# Altium footprint library go_kart.PcbLib: 10 footprints
Each footprint in its own frame and in the unit in brackets; x right, y up, seen from the top. Pads: shape width x height; smd on the part's side, far side on the other; paste and mask are expansions set on the pad; w line width, h text height; cw(c..) or ccw(c..) is an arc to the next point about the centre after c.
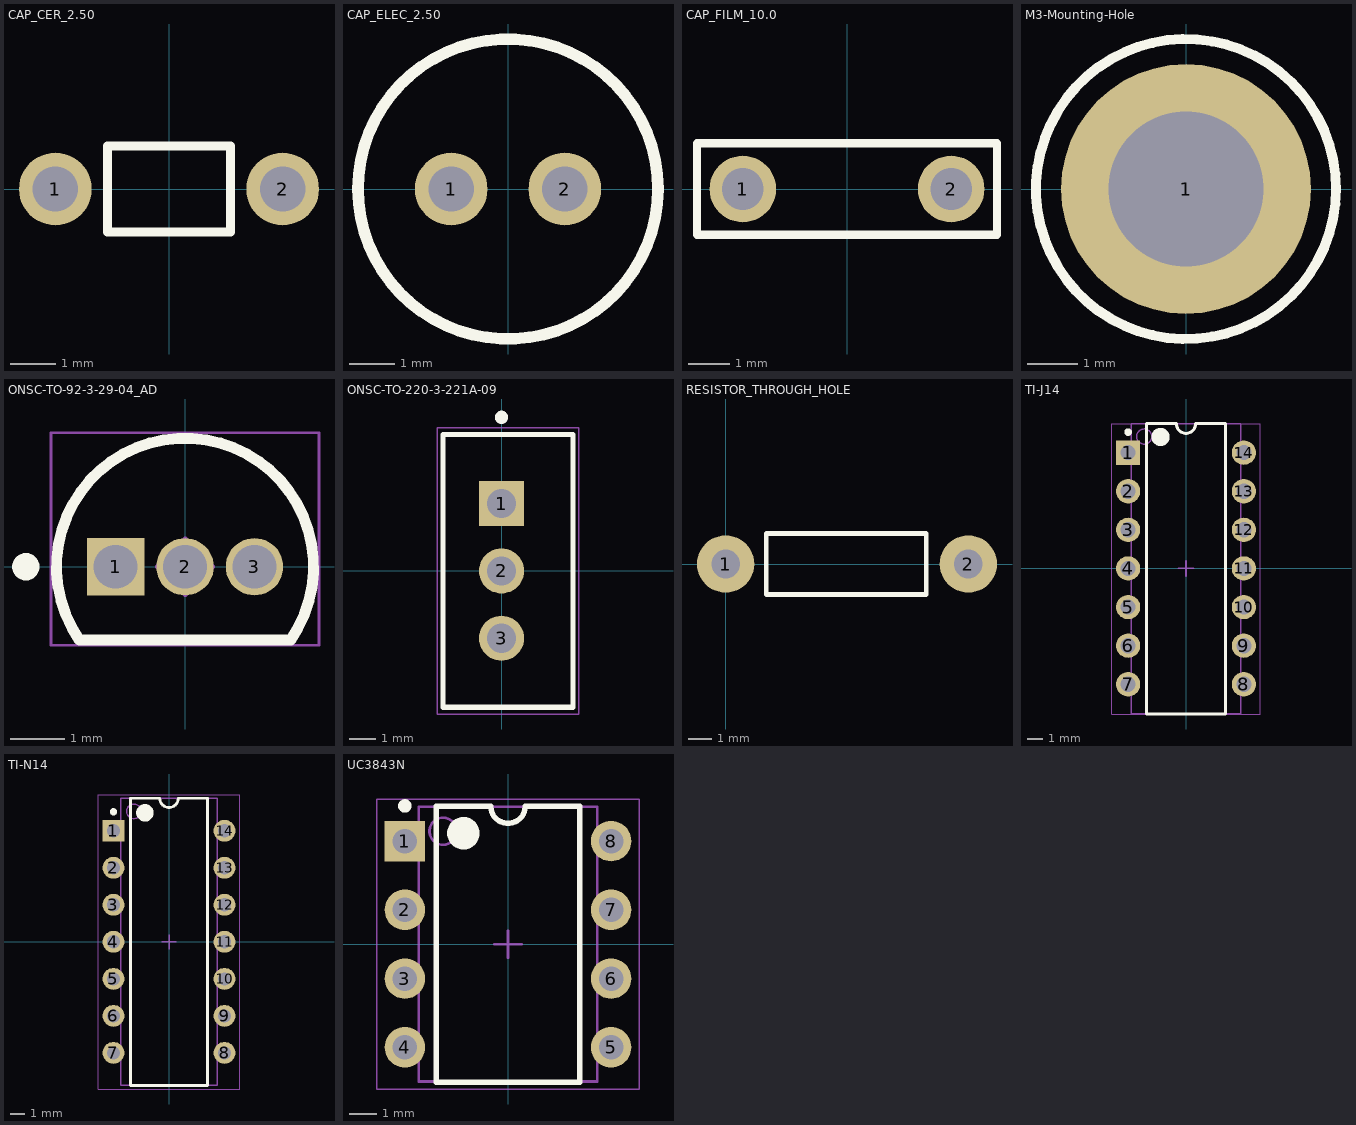
[diagram p0: the footprints below, top view; thin cyan lines are the x and y axes]

## CAP_CER_2.50 [mm]
pads (2):
  round 1.6 hole 1: 1(-2.5,0) 2(2.5,0)
Top Overlay:
  lines w0.2: -1.35,-0.95 1.35,-0.95 1.35,0.95 -1.35,0.95 -1.35,-0.95
3D body "C_Disc_D4.3mm_W1.9mm_P5.00mm.step": height 4.4, standoff -2, extent -2.75,-0.95 2.75,0.95

## CAP_ELEC_2.50 [mm]
pads (2):
  round 1.6 hole 1: 1(-1.25,0) 2(1.25,0)
Top Overlay:
  circle w0.254: c0,0 r3.3
3D body "C_Radial_D6.3mm_H7.0mm_P2.50mm.step": height 7.1, standoff -1.9, extent -3.15,-3.15 3.15,3.147

## CAP_FILM_10.0 [mm]
pads (2):
  round 1.6 hole 1: 1(-2.5,0) 2(2.5,0)
Top Overlay:
  lines w0.2: -3.6,-1.1 -3.6,1.1 3.6,1.1 3.6,-1.1 -3.6,-1.1
3D body "C_Rect_L7.0mm_W2.0mm_P5.00mm.step": height 10.01, standoff -1.89, extent -3.5,-1 3.5,1

## M3-Mounting-Hole [mm]
pads (1):
  round 5 hole 3.1: 1(0,0)
Top Overlay:
  circle w0.2: c0,0 r3
Bottom Overlay:
  circle w0.2: c0,0 r3

## ONSC-TO-92-3-29-04_AD [mm] "TO, 3-Leads, Body Dia 4.7mm, Pitch 1.27mm"
height 7.87
pads (3):
  rect 1.05x1.05 hole 0.8: 1(-1.27,0)
  round 1.05 hole 0.8: 2(0,0) 3(1.27,0)
Top Overlay:
  circle w0.25: c-2.911,0 r0.125
  lines w0.2: -1.933,-1.337 cw(c0,0) 1.933,-1.337 -1.933,-1.337
Mechanical 13:
  lines w0.1: -1.933,-1.337 cw(c0,0) 1.933,-1.337 ; -1.933,-1.335 1.933,-1.335
Mechanical 15:
  lines w0.05: -2.45,-1.435 -2.45,2.45 2.45,2.45 2.45,-1.435 -2.45,-1.435
  lines w0.1: -0.5,0 0.5,0 ; 0,-0.5 0,0.5
3D body: height 7.87, standoff 2.54, extent -2.357,-1.335 2.349,2.359

## ONSC-TO-220-3-221A-09 [mm] "FM, 3-Leads, Body 10.3x4.85mm, Pitch 2.54mm"
height 19.85
pads (3):
  rect 1.7x1.7 hole 1.1: 1(0,2.54)
  round 1.7 hole 1.1: 2(0,0) 3(0,-2.54)
Top Overlay:
  circle w0.25: c0,5.8 r0.125
  lines w0.2: -2.205,-5.15 -2.205,5.15 2.695,5.15 2.695,-5.15 -2.205,-5.15
Mechanical 13:
  lines w0.1: -2.18,-5.15 2.67,-5.15 2.67,5.15 -2.18,5.15 -2.18,-5.15
Mechanical 15:
  lines w0.05: -2.43,-5.4 2.92,-5.4 2.92,5.4 -2.43,5.4 -2.43,-5.4
3D body "TO220.STEP": height 19.16, standoff -10.35, extent -1.55,-5.163 2.9,5.112

## RESISTOR_THROUGH_HOLE [mm]
pads (2):
  round 2.4 hole 1.2: 1(0,0) 2(10.16,0)
Top Overlay:
  lines w0.2: 1.7,-1.275 8.4,-1.275 8.4,1.275 1.7,1.275 1.7,-1.275
3D body "R_Axial_DIN0207_L6.3mm_D2.5mm_P10.16mm_Horizontal.step": height 2.5, standoff -3, extent -0.303,-1.24 10.453,1.25

## TI-J14 [mm] "DIP, 14-Leads, Body 19.94x6.92mm, Row Spacing 7.62 mm, Pitch 2.54mm"
height 5.08
pads (14):
  rect 1.6x1.6 hole 1: 1(-3.81,7.62)
  round 1.6 hole 1: 2(-3.81,5.08) 3(-3.81,2.54) 4(-3.81,0) 5(-3.81,-2.54) 6(-3.81,-5.08) 7(-3.81,-7.62) 8(3.81,-7.62) 9(3.81,-5.08) 10(3.81,-2.54) 11(3.81,0) 12(3.81,2.54) 13(3.81,5.08) 14(3.81,7.62)
Top Overlay:
  circle w0.6: c-1.675,8.65 r0.3
  circle w0.25: c-3.81,8.97 r0.125
  lines w0.2: 0.635,9.525 cw(c0,9.525) -0.635,9.525 -2.6,9.525 -2.6,-9.575 2.6,-9.575 2.6,9.55 0.635,9.55
Mechanical 13:
  circle w0.1: c-2.75,8.675 r0.5
  lines w0.1: -3.6,-9.55 3.6,-9.55 3.6,9.525 -3.6,9.525 -3.6,-9.55
Mechanical 15:
  lines w0.05: -4.9,-9.575 4.9,-9.575 4.9,9.525 -4.9,9.525 -4.9,-9.575
  lines w0.1: -0.5,0 0.5,0 ; 0,-0.5 0,0.5
3D body "LMC6484.STEP": height 5.43, standoff -3.33, extent -4.254,-9.525 4.254,9.525

## TI-N14 [mm] "DIP, 14-Leads, Body 19.305x6.35 mm, Pitch 2.54 mm"
height 5.08
pads (14):
  rect 1.5x1.5 hole 0.9: 1(-3.81,7.62)
  round 1.5 hole 0.9: 2(-3.81,5.08) 3(-3.81,2.54) 4(-3.81,0) 5(-3.81,-2.54) 6(-3.81,-5.08) 7(-3.81,-7.62) 8(3.81,-7.62) 9(3.81,-5.08) 10(3.81,-2.54) 11(3.81,0) 12(3.81,2.54) 13(3.81,5.08) 14(3.81,7.62)
Top Overlay:
  circle w0.25: c-3.81,8.92 r0.125
  circle w0.6: c-1.65,8.85 r0.3
  lines w0.2: -2.65,-9.85 -2.65,9.85 -0.635,9.85 ccw(c0,9.85) 0.635,9.85 2.65,9.85 2.65,-9.85 -2.65,-9.85
Mechanical 13:
  circle w0.1: c-2.4,8.95 r0.5
  lines w0.1: -3.3,-9.85 -3.3,9.85 3.3,9.85 3.3,-9.85 -3.3,-9.85
Mechanical 15:
  lines w0.05: -4.85,-10.1 -4.85,10.1 4.85,10.1 4.85,-10.1 -4.85,-10.1
  lines w0.1: -0.5,0 0.5,0 ; 0,-0.5 0,0.5
3D body: height 5.08, standoff 0.51, extent -3.3,-9.85 3.3,9.85

## UC3843N [mm] "DIP, 8-Leads, Row Spacing 7.62mm, Pitch 2.54mm, Body 9.6x6.4mm"
height 5.08
pads (8):
  rect 1.5x1.5 hole 0.9: 1(-3.81,3.81)
  round 1.5 hole 0.9: 2(-3.81,1.27) 3(-3.81,-1.27) 4(-3.81,-3.81) 5(3.81,-3.81) 6(3.81,-1.27) 7(3.81,1.27) 8(3.81,3.81)
Top Overlay:
  circle w0.6: c-1.65,4.1 r0.3
  circle w0.25: c-3.81,5.11 r0.125
  lines w0.2: -2.65,-5.1 2.65,-5.1 2.65,5.1 0.635,5.1 cw(c0,5.1) -0.635,5.1 -2.65,5.1 -2.65,-5.1
Mechanical 13:
  circle w0.1: c-2.4,4.175 r0.5
  lines w0.1: -3.3,-5.075 3.3,-5.075 3.3,5.075 -3.3,5.075 -3.3,-5.075
Mechanical 15:
  lines w0.05: -4.85,-5.35 4.85,-5.35 4.85,5.35 -4.85,5.35 -4.85,-5.35
  lines w0.1: -0.5,0 0.5,0 ; 0,-0.5 0,0.5
3D body "UC3843N.STEP": height 5.18, standoff -3.71, extent -3.937,-4.794 3.937,4.794